# Altium schematic symbol library mem.SchLib: 3 symbols
Pins are listed as number, name and electrical type; pins without a type are passive.

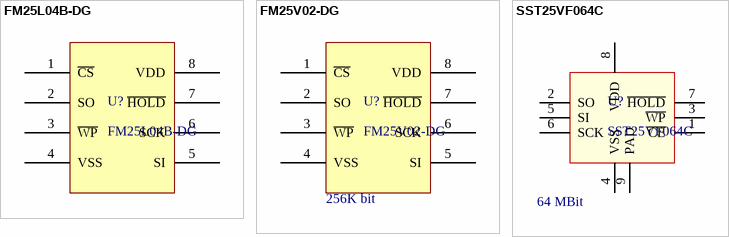
[diagram p0: symbols FM25L04B-DG to SST25VF064C]

## FM25L04B-DG
designator U?
4-Kbit (512 x 8) Serial (SPI) F-RAM; Supplier 1: Digi-Key; Supplier Part Number 1: FM25L04B-DGRA-ND
footprint TDFN-8 (CYPRESS TDFN-8 (4 x 4.5 x 0.8 mm))
pins: 1 ~{CS}, 2 SO, 3 ~{WP}, 4 VSS, 5 SI, 6 SCK, 7 ~{HOLD}, 8 VDD

## FM25V02-DG
designator U?  Size: 256K bit
256-Kbit (32 K × 8) Serial (SPI) F-RAM; Supplier 1: Digi-Key; Supplier Part Number 1: FM25V02-DGRA-ND
footprint TDFN-8 (CYPRESS TDFN-8 (4 x 4.5 x 0.8 mm))
pins: 1 ~{CS}, 2 SO, 3 ~{WP}, 4 VSS, 5 SI, 6 SCK, 7 ~{HOLD}, 8 VDD

## SST25VF064C
designator U?  Capacity: 64 MBit
64 Mbit SPI Serial Dual I/O Flash; Supplier 1: Digi-Key; Supplier Part Number 1: SST25VF064C-80-4I-Q2AE-CT-ND
footprint WSON (QFN, 8-Leads, Body 8.00x6.00mm, Pitch 1.27mm, Thermal Pad 6.00x4.80mm, IPC Medium Density)
pins: 1 ~{CE}, 2 SO, 3 ~{WP}, 4 VSS, 5 SI, 6 SCK, 7 ~{HOLD}, 8 VDD, 9 PAD